# EAGLE library part MMA7361 (library MMA7361)
３軸ジャイロセンサー
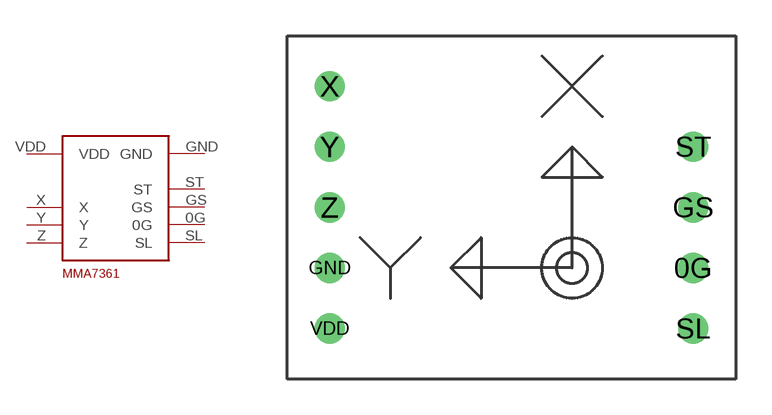
[diagram p0: symbol with the pads of MMA7361; footprint MMA7361]

Designator prefix MMA7361

## MMA7361BP  [MMA7361]
0G  0G
GND  GND
GS  GS
SL  SL
ST  ST
VDD  VDD
X  X
Y  Y
Z  Z

## Footprint MMA7361 (pad centres in mm)
3?????????????????
drill 0.7 pad 1.27: 0G 7.62,-2.54; GND -7.62,-2.54; GS 7.62,0; SL 7.62,-5.08; ST 7.62,2.54; VDD -7.62,-5.08; X -7.62,5.08; Y -7.62,2.54; Z -7.62,0